# Altium schematic symbol library LTC1446CS8.SchLib: 1 symbol
Pins are listed as number, name and electrical type; pins without a type are passive.

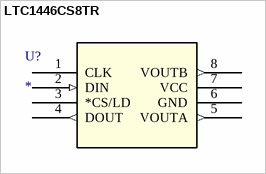
[diagram p0: symbol LTC1446CS8TR]

## LTC1446CS8TR
designator U?
Dual 12-Bit Rail-to-Rail Micropower DACs in SO-8; Manufacturer_Part_Number: ltc1446cs8#tr; Vendor: Linear Technology; RefDes: RefDes; Type: DEV; Value: Value
footprint SO-8_S
pins: 1 CLK, 2 DIN (in), 3 *CS/LD, 4 DOUT (out), 5 VOUTA (out), 6 GND (power), 7 VCC (power), 8 VOUTB (out)